# EAGLE library part ATTINY85 (library we-chip)
Microchip ATtiny25/45/85 AVR Microcontroller
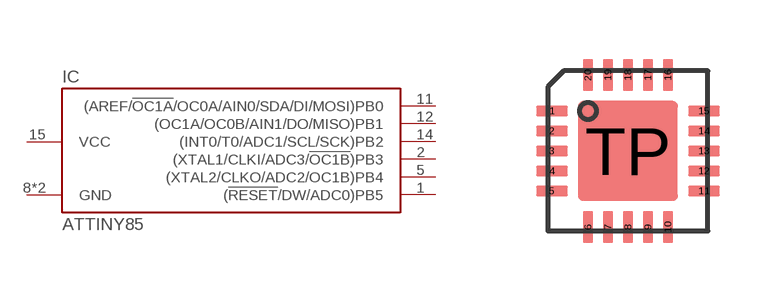
[diagram p13: symbol with the pads of QFN20-PAD; footprint QFN20-PAD]

Designator prefix IC

## ATTINY85-MU (DIGIKEY: ATTINY85-20MURDKR-ND)  [QFN20-PAD]
1  (!RESET!/DW/ADC0)PB5
2  (XTAL1/CLKI/ADC3/!OC1B!)PB3
5  (XTAL2/CLKO/ADC2/OC1B)PB4
8  GND  pwr
11  (AREF/!OC1A!/OC0A/AIN0/SDA/DI/MOSI)PB0
12  (OC1A/OC0B/AIN1/DO/MISO)PB1
14  (INT0/T0/ADC1/SCL/SCK)PB2
15  VCC  pwr
TP  GND  pwr

## Footprint QFN20-PAD (pad centres in mm)
smd 0.8 x 0.26: 1 -1.9,1; 2 -1.9,0.5; 3 -1.9,0; 4 -1.9,-0.5; 5 -1.9,-1; 11 1.9,-1; 12 1.9,-0.5; 13 1.9,0; 14 1.9,0.5; 15 1.9,1
smd 0.26 x 0.8: 6 -1,-1.9; 7 -0.5,-1.9; 8 0,-1.9; 9 0.5,-1.9; 10 1,-1.9; 16 1,1.9; 17 0.5,1.9; 18 0,1.9; 19 -0.5,1.9; 20 -1,1.9
smd 2.5 x 2.5: TP 0,0